# Altium footprint library 20181020.PcbLib: 27 footprints (part 1 of 2)
Each footprint in its own frame and in the unit in brackets; x right, y up, seen from the top. Pads: shape width x height; smd on the part's side, far side on the other; paste and mask are expansions set on the pad; w line width, h text height; cw(c..) or ccw(c..) is an arc to the next point about the centre after c.
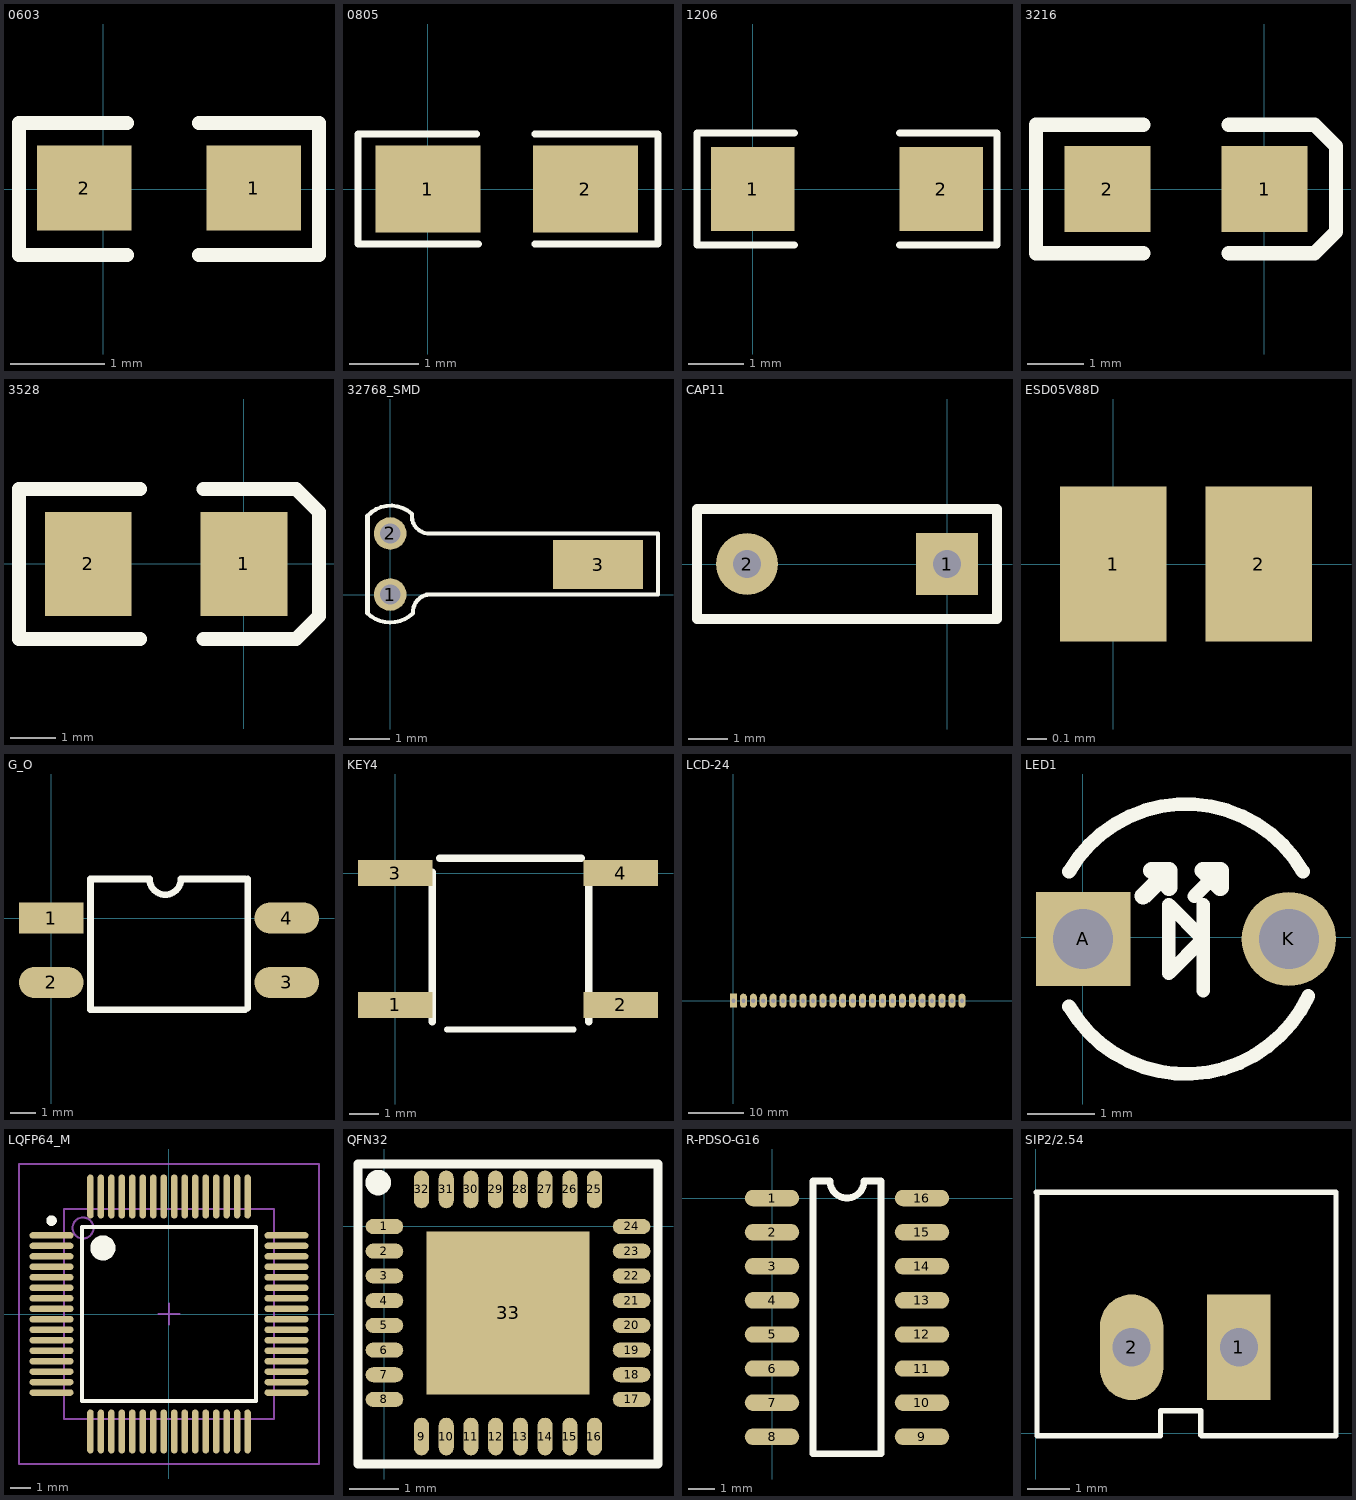
[diagram p0: the footprints below, top view; thin cyan lines are the x and y axes]

## 0603 [mm]
pads (2):
  rect 1x0.9 smd: 1(1.596,0.009) 2(-0.201,0.009)
Top Overlay:
  lines w0.15: 0.253,-0.7 -0.89,-0.7 -0.89,0.7 0.253,0.7 ; 1.015,-0.7 2.285,-0.7 2.285,0.7 1.015,0.7

## 0805 [mil]
pads (2):
  rect 60x50 smd: 1(0,0) 2(90,0)
Top Overlay:
  lines w3.94: 27.87,31.5 -40,31.5 -40,-31.5 28.94,-31.5 ; 61.06,-31.5 120,-31.5 131.5,-31.5 131.5,31.5 61.06,31.5

## 1206 [mil]
pads (2):
  rect 60x60 smd: 1(0,0) 2(135,0)
Top Overlay:
  lines w5: 30,-40 -40,-40 -40,40 30,40 ; 105,40 175,40 ; 175,-40 105,-40 175,-40 ; 175,-40 175,40 ; 175,-40 175,40

## 3216 [mil]
pads (2):
  rect 60x60 smd: 1(0.13,0.26) 2(-109.87,0.26)
Top Overlay:
  lines w10: -84.87,-44.74 -159.87,-44.74 -159.87,45.26 -84.87,45.26 ; -24.87,-44.74 35.13,-44.74 50.13,-29.74 50.13,30.26 35.13,45.26 -24.87,45.26

## 3528 [mil]
pads (2):
  rect 75x90 smd: 1(0,0) 2(-135,0)
Top Overlay:
  lines w12: -90,-65 -195,-65 -195,65 -90,65 ; -35,-65 45,-65 65,-45 65,45 45,65 -35,65

## 32768_SMD [mm]
pads (3):
  round 0.8 hole 0.5: 1(0,0) 2(0,1.5)
  rect 2.2x1.2 smd: 3(5.105,0.737)
Top Overlay:
  lines w0.1: -0.559,-0.457 ccw(c0,0.102) 0.559,-0.457 ; -0.559,1.93 cw(c0.013,1.41) 0.533,1.981 ccw(c0.965,1.931) 0.914,1.5 6.579,1.5 6.579,0 0.889,0 ; 0.558,-0.457 cw(c0.991,-0.431) 1.041,0
  lines w0.127: -0.559,-0.457 -0.559,1.93

## CAP11 [mil]
pads (2):
  rect 62x62 hole 28: 1(0,0)
  round 62 hole 28: 2(-200,0)
Top Overlay:
  lines w10: -250,-55 -250,55 50,55 50,-55 -250,-55

## ESD05V88D [mm]
height 21.1
pads (2):
  rect 0.55x0.8 smd: 1(0,0) 2(0.75,0)

## G_O [mm]
pads (4):
  rect 2.5x1.2 smd: 1(0,0)
  oval 2.5x1.2 smd: 2(0,-2.5) 3(9.14,-2.5) 4(9.14,0)
Top Overlay:
  lines w0.254: 1.516,1.516 3.816,1.516 ccw(c4.424,1.516) 5.033,1.516 ; 1.524,-3.556 7.524,-3.556 ; 1.524,-3.5 1.524,1.524 ; 5.116,1.516 7.516,1.516 ; 7.62,-3.5 7.62,1.524

## KEY4 [mm]
pads (4):
  rect 2.54x0.889 smd: 1(0,-4.5) 2(7.7,-4.5) 3(0,0) 4(7.7,0)
Top Overlay:
  lines w0.2: 1.766,-5.334 6.096,-5.334
  lines w0.254: 1.27,-5.08 1.27,0.024 ; 1.524,0.508 6.35,0.508 ; 6.604,-5.08 6.604,-0.254

## LCD-24 [mil]
pads (24):
  rect 50x100 hole 30: 1(0,0)
  oval 50x100 hole 30: 2(70.87,0) 3(141.73,0) 4(212.6,0) 5(283.46,0) 6(354.33,0) 7(425.2,0) 8(496.06,0) 9(566.93,0) 10(637.79,0) 11(708.66,0) 12(779.53,0) 13(850.39,0) 14(921.26,0) 15(992.13,0) 16(1062.99,0) 17(1133.86,0) 18(1204.72,0) 19(1275.59,0) 20(1346.46,0) 21(1417.32,0) 22(1488.19,0) 23(1559.05,0) 24(1629.92,0)
Bottom Overlay:
  lines w10: -260,-60 1880,-60 1880,940 -260,940 -260,-60

## LED1 [mil]
pads (2):
  rect 55x55 hole 35: A(0.09,-1.05)
  round 55 hole 35: K(120.09,-1.05)
Top Overlay:
  lines w8: -8.1,-40.42 ccw(c60.09,-1.05) 131.46,-34.32 ; -8.1,38.32 cw(c60.09,-1.05) 128.28,38.32 ; 40.09,38.95 50.09,28.95 ; 65.09,23.95 80.09,38.95 ; 70.09,-31.05 70.09,18.95 ; 50.09,-21.05 70.09,-1.05 50.09,18.95 50.09,-21.05
  lines w10: 35.09,23.95 50.09,38.95 ; 40.09,38.95 50.09,38.95 ; 50.09,28.95 50.09,38.95 ; 70.09,38.95 80.09,38.95 80.09,28.95 70.09,38.95

## LQFP64_M [mm] "Thin QFP, 64-Leads, Body 10x10mm, Pitch 0.5mm, IPC Low Density"
height 1.6
pads (64):
  oval 2.1x0.3 smd: 1(-5.6,3.75) 2(-5.6,3.25) 3(-5.6,2.75) 4(-5.6,2.25) 5(-5.6,1.75) 6(-5.6,1.25) 7(-5.6,0.75) 8(-5.6,0.25) 9(-5.6,-0.25) 10(-5.6,-0.75) 11(-5.6,-1.25) 12(-5.6,-1.75) 13(-5.6,-2.25) 14(-5.6,-2.75) 15(-5.6,-3.25) 16(-5.6,-3.75) 33(5.6,-3.75) 34(5.6,-3.25) 35(5.6,-2.75) 36(5.6,-2.25) 37(5.6,-1.75) 38(5.6,-1.25) 39(5.6,-0.75) 40(5.6,-0.25) 41(5.6,0.25) 42(5.6,0.75) 43(5.6,1.25) 44(5.6,1.75) 45(5.6,2.25) 46(5.6,2.75) 47(5.6,3.25) 48(5.6,3.75)
  oval 0.3x2.1 smd: 17(-3.75,-5.6) 18(-3.25,-5.6) 19(-2.75,-5.6) 20(-2.25,-5.6) 21(-1.75,-5.6) 22(-1.25,-5.6) 23(-0.75,-5.6) 24(-0.25,-5.6) 25(0.25,-5.6) 26(0.75,-5.6) 27(1.25,-5.6) 28(1.75,-5.6) 29(2.25,-5.6) 30(2.75,-5.6) 31(3.25,-5.6) 32(3.75,-5.6) 49(3.75,5.6) 50(3.25,5.6) 51(2.75,5.6) 52(2.25,5.6) 53(1.75,5.6) 54(1.25,5.6) 55(0.75,5.6) 56(0.25,5.6) 57(-0.25,5.6) 58(-0.75,5.6) 59(-1.25,5.6) 60(-1.75,5.6) 61(-2.25,5.6) 62(-2.75,5.6) 63(-3.25,5.6) 64(-3.75,5.6)
Top Overlay:
  circle w0.6: c-3.15,3.15 r0.3
  circle w0.25: c-5.6,4.45 r0.125
  lines w0.2: -4.15,-4.15 4.15,-4.15 4.15,4.15 -4.15,4.15 -4.15,-4.15
Mechanical 13:
  circle w0.1: c-4.1,4.1 r0.5
  lines w0.1: -5,-5 5,-5 5,5 -5,5 -5,-5
Mechanical 15:
  lines w0.1: -0.5,0 0.5,0 ; 0,-0.5 0,0.5 ; -7.15,-7.15 7.15,-7.15 7.15,7.15 -7.15,7.15 -7.15,-7.15
3D body: height 1.6, standoff 0, extent -5,-5 5,5

## QFN32 [mil]
pads (33):
  oval 30x12 smd: 1(0,0) 2(0,-19.68) 3(0,-39.37) 4(0,-59.06) 5(0,-78.74) 6(0,-98.43) 7(0,-118.11) 8(0,-137.8) 17(196.85,-137.8) 18(196.85,-118.11) 19(196.85,-98.43) 20(196.85,-78.74) 21(196.85,-59.06) 22(196.85,-39.37) 23(196.85,-19.68) 24(196.85,0)
  oval 12x30 smd: 9(29.53,-167.32) 10(49.21,-167.32) 11(68.9,-167.32) 12(88.58,-167.32) 13(108.27,-167.32) 14(127.95,-167.32) 15(147.64,-167.32) 16(167.32,-167.32) 25(167.32,29.53) 26(147.64,29.53) 27(127.95,29.53) 28(108.27,29.53) 29(88.58,29.53) 30(68.9,29.53) 31(49.21,29.53) 32(29.53,29.53)
  rect 129.92x129.92 smd: 33(98.43,-68.9)
Top Overlay:
  circle w11.81: c-5,35 r4.24
  lines w7: -21.09,-189.21 217.91,-189.21 217.91,49.79 -21.09,49.79 -21.09,-189.21

## R-PDSO-G16 [mil]
pads (16):
  oval 80x24 smd: 1(0,0) 2(0,-50) 3(0,-100) 4(0,-150) 5(0,-200) 6(0,-250) 7(0,-300) 8(0,-350) 9(220,-350) 10(220,-300) 11(220,-250) 12(220,-200) 13(220,-150) 14(220,-100) 15(220,-50) 16(220,0)
Top Overlay:
  lines w10: 60,-375 60,25 85,25 ccw(c110,25) 135,25 160,25 160,-375 60,-375

## SIP2/2.54 [mm]
pads (2):
  rect 1.5x2.5 hole 0.9: 1(4.805,2.036)
  oval 1.5x2.5 hole 0.9: 2(2.265,2.036)
Top Overlay:
  lines w0.127: 0,5.711 7.07,5.711 ; 0.025,5.711 0.025,-0.064 ; 0.925,-0.064 0.025,-0.064 ; 7.105,5.711 7.105,-0.064 6.305,-0.064 3.925,-0.064 3.9,-0.039 3.9,0.536 2.95,0.536 2.95,-0.064 0.025,-0.064